# Altium schematic symbol library 05E_Connector.SchLib: 10 symbols
Pins are listed as number, name and electrical type; pins without a type are passive.

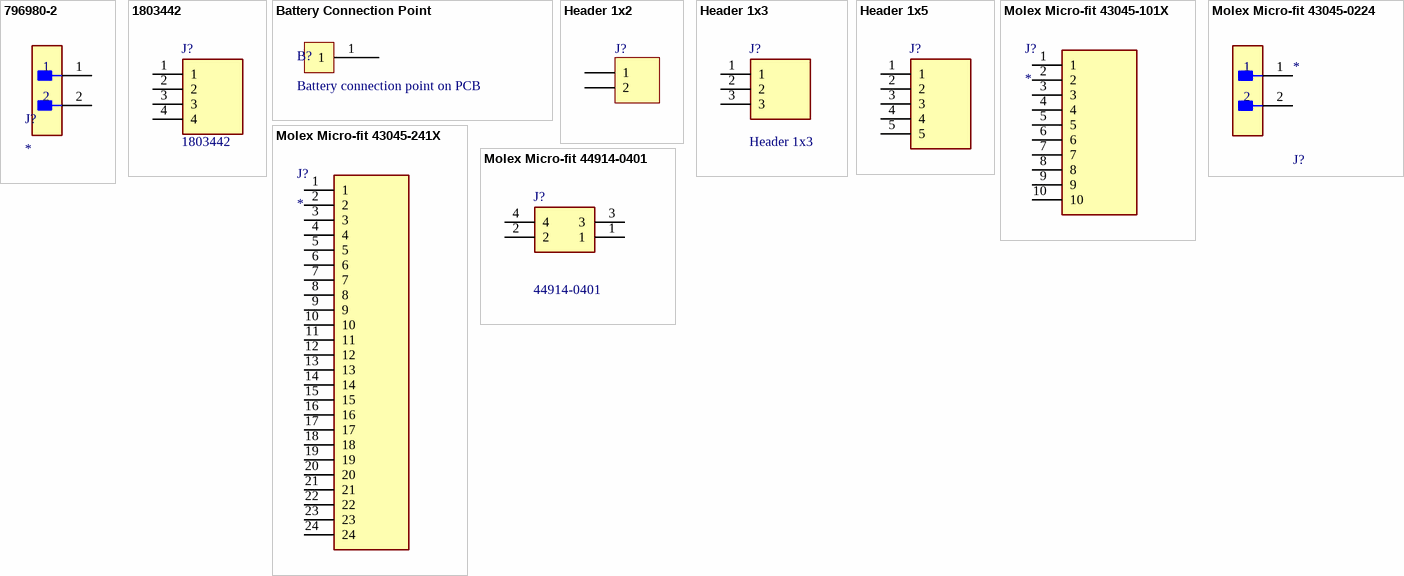
[diagram p0: symbols 796980-2 to Molex Micro-fit 44914-0401]

## 796980-2
designator J?
2 POS TERMI-BLOK VERT HDR 7.62; MF: TE Connectivity; Number_of_Positions: 2; Centerline_Pitch: 7.62 mm[.3 in]; MP: 796980-2; EU_RoHS_Compliance: Compliant; SnapEDA_Link: https://www.snapeda.com/parts/796980-2/TE%20Connectivity%20AMP%20Connectors/view-part/2388872/?ref=snap; Price: None; DigiKey-Purchase-URL: https://snapeda.com/shop?store=DigiKey&id=2388872; Package: None; Value: *; Availability: Unavailable
footprint TE_796980-2
pins: 1, 2

## 1803442
designator J?
4 way vertical PCB header,3.81mm pitch Phoenix Contact MCV Series, 3.81mm Pitch 4 Way 1 Row Straight PCB Header, Solder Termination, 8A; Geometry.Height: 9.35mm; Mouser Part Number: 651-1803442; Mouser Price/Stock: https://www.mouser.co.uk/ProductDetail/Phoenix-Contact/1803442?qs=Xflg4jNzfa7Tdrzy1DEcFA%3D%3D; Manufacturer_Name: Phoenix Contact; Manufacturer_Part_Number: 1803442; Datasheet Link: http://www.phoenixcontact.net/product/1803442
footprint SHDR4W83P0X381_1X4_1663X725X935P
pins: 1, 2, 3, 4

## Battery Connection Point
designator B?, comment Battery connection point on PCB  (no BOM)
footprint BatteryConnectionTerminal
footprint BatteryConnectionPoint-OverallTerminal
pins: 1

## Header 1x2
designator J?
Header, 2-Pin; LatestRevisionDate: 17-Jul-2002; LatestRevisionNote: Re-released for DXP Platform.; Publisher: Altium Limited
footprint HDR_1X2_THD (Connector; Header; 2 Position)
pins: 1, 2

## Header 1x3
designator J?
Pin Header 2.54mm Pitch STR DIP, 1x3Pin, G/F, LCP, 8.08mm*2.54mm*3.18mm, Color-Black, Bag; Manufacturer_Name: Amphenol Communications Solutions; Manufacturer_Part_Number: G800LR305018EU; Geometry.Height: 10.82mm; Mouser Part Number: 523-G800LR305018EU; Mouser Price/Stock: https://www.mouser.co.uk/ProductDetail/Amphenol-Commercial-Products/G800LR305018EU?qs=PzGy0jfpSMsZaVkTJmYyRA%3D%3D; Datasheet Link: https://cdn.amphenol-cs.com/media/wysiwyg/files/drawing/g800lrxxxxxxeu_1.pdf
footprint HDR_1X3_THD
pins: 1, 2, 3

## Header 1x5
designator J?  (value not drawn)
Manufacturer_Name: TE Connectivity; Manufacturer_Part_Number: 87224-5; Geometry.Height: 10.745mm; Datasheet Link: https://www.arrow.com/en/products/87224-5/te-connectivity
footprint HDR_1X5_THD
pins: 1, 2, 3, 4, 5

## Molex Micro-fit 43045-101X
designator J?
Molex, Micro-Fit3.0 Right-Angled SMD connector, 2x5; Manufacturer_Part_Number: 43045-1011; Datasheet Link: https://www.molex.com/pdm_docs/sd/430450209_sd.pdf; Height: 8.77mm; Manufacturer_Name: Molex; Mouser Part Number: 538-43045-1011; Mouser Price/Stock: https://www.mouser.co.uk/ProductDetail/Molex/43045-1011?qs=qWixfiLJRax2YI8enyiS7g%3D%3D
footprint MOLEX_MICROFIT_2x5_SMD_ANGLE (43045-10YY)
pins: 1, 2, 3, 4, 5, 6, 7, 8, 9, 10

## Molex Micro-fit 43045-0224
designator J?
Molex, Micro-Fit 3.0 Vertical Header, 3.00mm Pitch, Dual Row, 2 Circuits, with PCB Press-fit Metal Retention Clip, Tin, Glow-Wire Capable, Black / 43045-0224; Number of Circuits: 2; Pitch: 3mm; Voltage Rating: 600V; Voltage Rating (DC): 250V; Max Voltage Rating (DC): 250.25kV; Connector Type: Plug; Gender: Male; Glow Wire Compliant: Compliant; Current Rating: 5A; Contact Resistance: 10mR; Flammability Rating: UL94 V-0; Contact Gender: Male; Halogen Free: Low Halogen; Contact Material: Brass; Radiation Hardening: No; Number of Rows: 2; Packaging: Tray; Number of Positions: 2; Mount: Through Hole; Orientation: Vertical; Number of Contacts: 2; Min Operating Temperature: -40°C; Color: Black; Max Operating Temperature: 105°C; Housing Material: Thermoplastic; Row Spacing: 3mm; Package Quantity: 3168; Series: 43045; Contact Plating: Tin; RoHS Compliant: Yes; Termination: Through Hole; ComponentLink1Description: Product Page; ComponentLink1URL: https://www.molex.com/molex/products/part-detail/pcb_headers/0430450224
footprint MOLEX_MICROFIT_1x2_THD
pins: 1, 2

## Molex Micro-fit 43045-241X
designator J?
Molex, Micro-Fit3.0 Right-Angled SMD connector, 2x11; Manufacturer_Part_Number: 43045-2410; Datasheet Link: https://www.molex.com/pdm_docs/sd/430450209_sd.pdf; Height: 8.77mm; Manufacturer_Name: Molex; Mouser Part Number: 538-43045-2410; Mouser Price/Stock: https://www.mouser.co.uk/ProductDetail/Molex/43045-2410?qs=pWIReIhcJCRfuDFxW%2Fqv5Q%3D%3D
footprint MOLEX_MICROFIT_2x11_SMD_ANGLE (43045-24XX)
pins: 1, 2, 3, 4, 5, 6, 7, 8, 9, 10, 11, 12, 13, 14, 15, 16, 17, 18, 19, 20, 21, 22, 23, 24

## Molex Micro-fit 44914-0401
designator J?, comment 44914-0401
Micro-Fit CPI Header, Compliant Pin Interface, Dual Row, Vertical, 4 Circuits; Manufacturer_Name: Molex; Geometry.Height: 9.91mm; Manufacturer_Part_Number: 44914-0401; Datasheet Link: https://www.molex.com/pdm_docs/sd/449140201_sd.pdf
footprint MOLEX_MICROFIT_2x2_THD
pins: 1, 2, 3, 4